# Altium integrated library Linear Technology PMIC-Switching Reg LTC1174-LTC3901.IntLib: 2647 symbols (part 115 of 310)
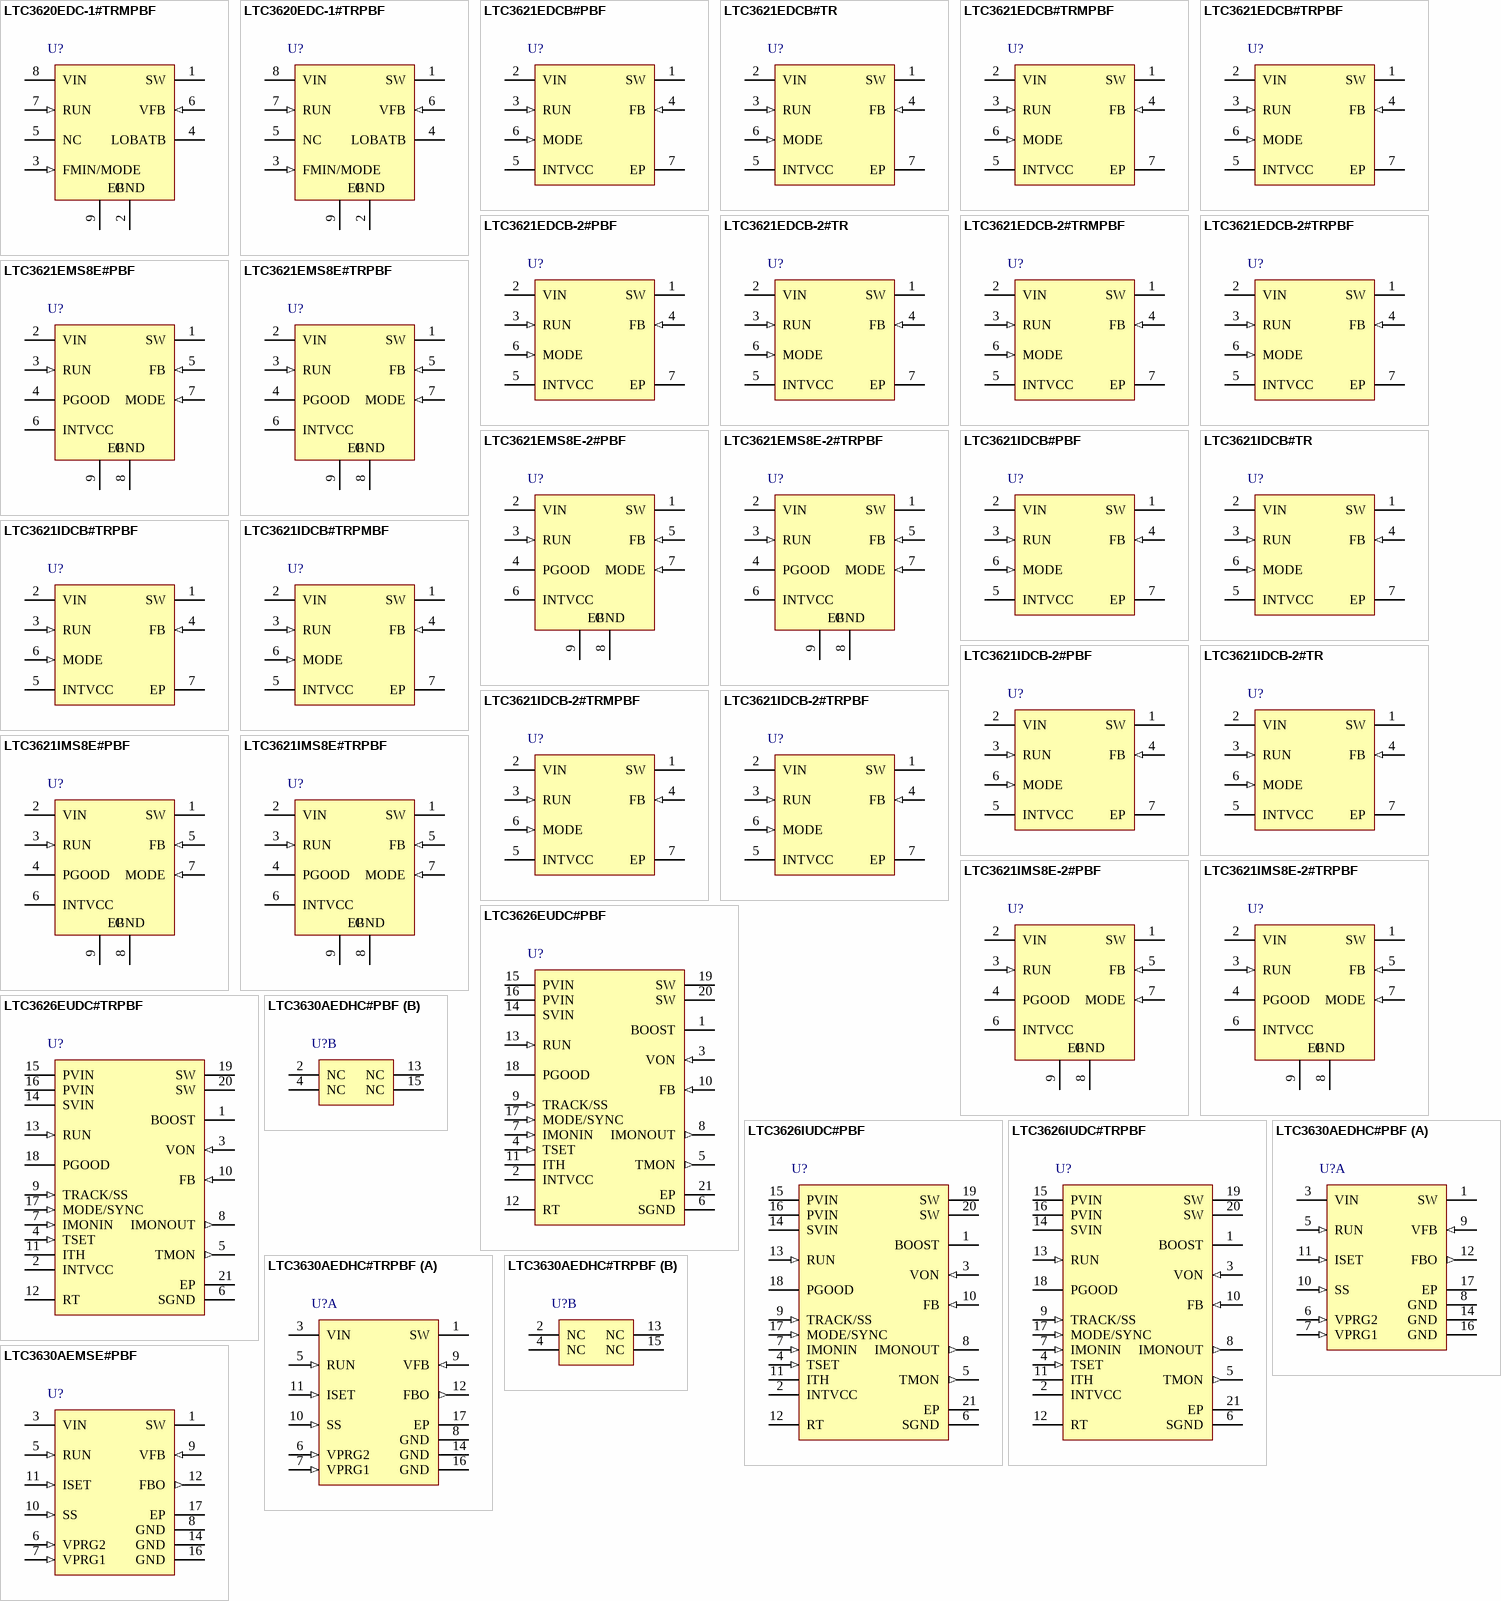
[diagram p182: symbols LTC3620EDC-1#TRMPBF to LTC3630AEMSE#PBF]

## LTC3621EMS8E-2#PBF
designator U?
1 A Synchronous Step-Down Regulator with 3.5 uA Quiescent Current, 8-pin SOP (MS8E-8), -40 to 125 degC, Pb-Free; Manufacturer: Linear Technology; PartNumber: LTC3621EMS8E-2#PBF; Number of Outputs: 1; PackageReference: MS8E-8; PackageDescription: 8-Pin Plastic MSOP, Exposed Die Pad, Body 3 x 3 mm, Pitch 0.65 mm; Supplier 1: Digi-Key; Supplier Part Number 1: LTC3621EMS8E-2#PBF-ND; RoHS: TRUE
footprint LT-MS8E-8-1880X1680TP_N (SOP, 8-Leads, Body 3.1x3.1mm, Pitch 0.65mm, Thermal Pad 1.88x1.68mm, IPC Medium Density)
footprint LT-MS8E-8-1880X1680TP_L (SOP, 8-Leads, Body 3.1x3.1mm, Pitch 0.65mm, Thermal Pad 1.88x1.68mm, IPC High Density)
footprint LT-MS8E-8-1880X1680TP_M (SOP, 8-Leads, Body 3.1x3.1mm, Pitch 0.65mm, Thermal Pad 1.88x1.68mm, IPC Low Density)
pins: 1 SW (power) "Switch Node Connection to the Inductor of the Step-Down Regulator.", 2 VIN (power) "Input Voltage of the Step-Down Regulator", 3 RUN (in) "Logic Controlled RUN Input. Do not leave this pin floating. Logic high activates the step-down regulator.", 4 PGOOD (oc) "VOUT within Regulation Indicator.", 5 FB (in) "Feedback Input to the Error Amplifier of the Step-Down Regulator. Connect a resistor divider tap to this pin.", 6 INTVCC (power) "Low Dropout Regulator. Bypass with at least 1uF to Ground.", 7 MODE (in) "Burst Mode Select of the Step-Down Regulator. Tie MODE to INTVCC for Burst Mode operation with a 400mA peak current clamp, tie MODE to GND for pulse skipping operation, and tie MODE to a voltage between 1V and VINTVCC - 1V (See Datasheet)", 8 SGND (power) "Signal Ground.", 9 EP (power) "Ground Backplane for Power and Signal Ground. Must be soldered to PCB ground."
text: GND

## LTC3621EMS8E-2#TRPBF
designator U?
1 A Synchronous Step-Down Regulator with 3.5 uA Quiescent Current, 8-pin SOP (MS8E-8), -40 to 125 degC, Pb-Free, Tape and Reel; Manufacturer: Linear Technology; PartNumber: LTC3621EMS8E-2#TRPBF; Number of Outputs: 1; PackageReference: MS8E-8; PackageDescription: 8-Pin Plastic MSOP, Exposed Die Pad, Body 3 x 3 mm, Pitch 0.65 mm; Supplier 1: Digi-Key; Supplier Part Number 1: LTC3621EMS8E-2#TRPBF-ND; RoHS: TRUE
footprint LT-MS8E-8-1880X1680TP_N (SOP, 8-Leads, Body 3.1x3.1mm, Pitch 0.65mm, Thermal Pad 1.88x1.68mm, IPC Medium Density)
footprint LT-MS8E-8-1880X1680TP_L (SOP, 8-Leads, Body 3.1x3.1mm, Pitch 0.65mm, Thermal Pad 1.88x1.68mm, IPC High Density)
footprint LT-MS8E-8-1880X1680TP_M (SOP, 8-Leads, Body 3.1x3.1mm, Pitch 0.65mm, Thermal Pad 1.88x1.68mm, IPC Low Density)
pins: 1 SW (power) "Switch Node Connection to the Inductor of the Step-Down Regulator.", 2 VIN (power) "Input Voltage of the Step-Down Regulator", 3 RUN (in) "Logic Controlled RUN Input. Do not leave this pin floating. Logic high activates the step-down regulator.", 4 PGOOD (oc) "VOUT within Regulation Indicator.", 5 FB (in) "Feedback Input to the Error Amplifier of the Step-Down Regulator. Connect a resistor divider tap to this pin.", 6 INTVCC (power) "Low Dropout Regulator. Bypass with at least 1uF to Ground.", 7 MODE (in) "Burst Mode Select of the Step-Down Regulator. Tie MODE to INTVCC for Burst Mode operation with a 400mA peak current clamp, tie MODE to GND for pulse skipping operation, and tie MODE to a voltage between 1V and VINTVCC - 1V (See Datasheet)", 8 SGND (power) "Signal Ground.", 9 EP (power) "Ground Backplane for Power and Signal Ground. Must be soldered to PCB ground."
text: GND

## LTC3621IDCB#PBF
designator U?
1 A Synchronous Step-Down Regulator with 3.5 uA Quiescent Current, 6-pin SON (DCB-6), -40 to 125 degC, Pb-Free; Manufacturer: Linear Technology; PartNumber: LTC3621IDCB#PBF; Number of Outputs: 1; PackageReference: DCB-6; PackageDescription: 6-Pin Plastic DFN, Body 2 x 3 mm, Pitch 0.5 mm; RoHS: TRUE; Code_JEDEC: MO-229
footprint LT-DCB-6_V (SON, 6-Leads, Body 3x2mm, Pitch 0.5mm, Thermal Pad 1.65x1.35mm)
pins: 1 SW (power) "Switch Node Connection to the Inductor of the Step-Down Regulator.", 2 VIN (power) "Input Voltage of the Step-Down Regulator.", 3 RUN (in) "Logic Controlled RUN Input. Do not leave this pin floating. Logic high activates the step-down regulator.", 4 FB (in) "Feedback Input to the Error Amplifier of the Step-Down Regulator. Connect a resistor divider tap to this pin. The output voltage can be adjusted from 0.6V to VIN by: VOUT = 0.6V x [1 + (R1/R2)]", 5 INTVCC (power) "Low Dropout Regulator. Bypass with at least 1uF to Ground.", 6 MODE (in) "Burst Mode Select of the Step-Down Regulator. Tie MODE to INTVCC for Burst Mode operation with a 400mA peak current clamp, tie MODE to GND for pulse skipping operation, and tie MODE to a voltage between 1V and VINTVCC -1V (See Datasheet)", 7 EP (power) "Ground Backplane for Power and Signal Ground. Must be soldered to PCB ground."

## LTC3621IDCB#TR
designator U?
1 A Synchronous Step-Down Regulator with 3.5 uA Quiescent Current, 6-pin SON (DCB-6), -40 to 125 degC, Tape and Reel; Manufacturer: Linear Technology; PartNumber: LTC3621IDCB#TR; Number of Outputs: 1; PackageReference: DCB-6; PackageDescription: 6-Pin Plastic DFN, Body 2 x 3 mm, Pitch 0.5 mm; RoHS: FALSE; Code_JEDEC: MO-229
footprint LT-DCB-6_V (SON, 6-Leads, Body 3x2mm, Pitch 0.5mm, Thermal Pad 1.65x1.35mm)
pins: 1 SW (power) "Switch Node Connection to the Inductor of the Step-Down Regulator.", 2 VIN (power) "Input Voltage of the Step-Down Regulator.", 3 RUN (in) "Logic Controlled RUN Input. Do not leave this pin floating. Logic high activates the step-down regulator.", 4 FB (in) "Feedback Input to the Error Amplifier of the Step-Down Regulator. Connect a resistor divider tap to this pin. The output voltage can be adjusted from 0.6V to VIN by: VOUT = 0.6V x [1 + (R1/R2)]", 5 INTVCC (power) "Low Dropout Regulator. Bypass with at least 1uF to Ground.", 6 MODE (in) "Burst Mode Select of the Step-Down Regulator. Tie MODE to INTVCC for Burst Mode operation with a 400mA peak current clamp, tie MODE to GND for pulse skipping operation, and tie MODE to a voltage between 1V and VINTVCC -1V (See Datasheet)", 7 EP (power) "Ground Backplane for Power and Signal Ground. Must be soldered to PCB ground."

## LTC3621IDCB#TRPBF
designator U?
1 A Synchronous Step-Down Regulator with 3.5 uA Quiescent Current, 6-pin SON (DCB-6), -40 to 125 degC, Pb-Free, Tape and Reel; Manufacturer: Linear Technology; PartNumber: LTC3621IDCB#TRPBF; Number of Outputs: 1; PackageReference: DCB-6; PackageDescription: 6-Pin Plastic DFN, Body 2 x 3 mm, Pitch 0.5 mm; Supplier 1: Digi-Key; Supplier Part Number 1: LTC3621IDCB#TRPBF-ND; RoHS: TRUE; Code_JEDEC: MO-229
footprint LT-DCB-6_V (SON, 6-Leads, Body 3x2mm, Pitch 0.5mm, Thermal Pad 1.65x1.35mm)
pins: 1 SW (power) "Switch Node Connection to the Inductor of the Step-Down Regulator.", 2 VIN (power) "Input Voltage of the Step-Down Regulator.", 3 RUN (in) "Logic Controlled RUN Input. Do not leave this pin floating. Logic high activates the step-down regulator.", 4 FB (in) "Feedback Input to the Error Amplifier of the Step-Down Regulator. Connect a resistor divider tap to this pin. The output voltage can be adjusted from 0.6V to VIN by: VOUT = 0.6V x [1 + (R1/R2)]", 5 INTVCC (power) "Low Dropout Regulator. Bypass with at least 1uF to Ground.", 6 MODE (in) "Burst Mode Select of the Step-Down Regulator. Tie MODE to INTVCC for Burst Mode operation with a 400mA peak current clamp, tie MODE to GND for pulse skipping operation, and tie MODE to a voltage between 1V and VINTVCC -1V (See Datasheet)", 7 EP (power) "Ground Backplane for Power and Signal Ground. Must be soldered to PCB ground."

## LTC3621IDCB#TRPMBF
designator U?
1 A Synchronous Step-Down Regulator with 3.5 uA Quiescent Current, 6-pin SON (DCB-6), -40 to 125 degC, Pb-Free, Mini Tape and Reel; Manufacturer: Linear Technology; PartNumber: LTC3621IDCB#TRPMBF; Number of Outputs: 1; PackageReference: DCB-6; PackageDescription: 6-Pin Plastic DFN, Body 2 x 3 mm, Pitch 0.5 mm; RoHS: TRUE; Code_JEDEC: MO-229
footprint LT-DCB-6_V (SON, 6-Leads, Body 3x2mm, Pitch 0.5mm, Thermal Pad 1.65x1.35mm)
pins: 1 SW (power) "Switch Node Connection to the Inductor of the Step-Down Regulator.", 2 VIN (power) "Input Voltage of the Step-Down Regulator.", 3 RUN (in) "Logic Controlled RUN Input. Do not leave this pin floating. Logic high activates the step-down regulator.", 4 FB (in) "Feedback Input to the Error Amplifier of the Step-Down Regulator. Connect a resistor divider tap to this pin. The output voltage can be adjusted from 0.6V to VIN by: VOUT = 0.6V x [1 + (R1/R2)]", 5 INTVCC (power) "Low Dropout Regulator. Bypass with at least 1uF to Ground.", 6 MODE (in) "Burst Mode Select of the Step-Down Regulator. Tie MODE to INTVCC for Burst Mode operation with a 400mA peak current clamp, tie MODE to GND for pulse skipping operation, and tie MODE to a voltage between 1V and VINTVCC -1V (See Datasheet)", 7 EP (power) "Ground Backplane for Power and Signal Ground. Must be soldered to PCB ground."

## LTC3621IDCB-2#PBF
designator U?
1 A Synchronous Step-Down Regulator with 3.5 uA Quiescent Current, 6-pin SON (DCB-6), -40 to 125 degC, Pb-Free; Manufacturer: Linear Technology; PartNumber: LTC3621IDCB-2#PBF; Number of Outputs: 1; PackageReference: DCB-6; PackageDescription: 6-Pin Plastic DFN, Body 2 x 3 mm, Pitch 0.5 mm; RoHS: TRUE; Code_JEDEC: MO-229
footprint LT-DCB-6_V (SON, 6-Leads, Body 3x2mm, Pitch 0.5mm, Thermal Pad 1.65x1.35mm)
pins: 1 SW (power) "Switch Node Connection to the Inductor of the Step-Down Regulator.", 2 VIN (power) "Input Voltage of the Step-Down Regulator.", 3 RUN (in) "Logic Controlled RUN Input. Do not leave this pin floating. Logic high activates the step-down regulator.", 4 FB (in) "Feedback Input to the Error Amplifier of the Step-Down Regulator. Connect a resistor divider tap to this pin. The output voltage can be adjusted from 0.6V to VIN by: VOUT = 0.6V x [1 + (R1/R2)]", 5 INTVCC (power) "Low Dropout Regulator. Bypass with at least 1uF to Ground.", 6 MODE (in) "Burst Mode Select of the Step-Down Regulator. Tie MODE to INTVCC for Burst Mode operation with a 400mA peak current clamp, tie MODE to GND for pulse skipping operation, and tie MODE to a voltage between 1V and VINTVCC -1V (See Datasheet)", 7 EP (power) "Ground Backplane for Power and Signal Ground. Must be soldered to PCB ground."

## LTC3621IDCB-2#TR
designator U?
1 A Synchronous Step-Down Regulator with 3.5 uA Quiescent Current, 6-pin SON (DCB-6), -40 to 125 degC, Tape and Reel; Manufacturer: Linear Technology; PartNumber: LTC3621IDCB-2#TR; Number of Outputs: 1; PackageReference: DCB-6; PackageDescription: 6-Pin Plastic DFN, Body 2 x 3 mm, Pitch 0.5 mm; RoHS: FALSE; Code_JEDEC: MO-229
footprint LT-DCB-6_V (SON, 6-Leads, Body 3x2mm, Pitch 0.5mm, Thermal Pad 1.65x1.35mm)
pins: 1 SW (power) "Switch Node Connection to the Inductor of the Step-Down Regulator.", 2 VIN (power) "Input Voltage of the Step-Down Regulator.", 3 RUN (in) "Logic Controlled RUN Input. Do not leave this pin floating. Logic high activates the step-down regulator.", 4 FB (in) "Feedback Input to the Error Amplifier of the Step-Down Regulator. Connect a resistor divider tap to this pin. The output voltage can be adjusted from 0.6V to VIN by: VOUT = 0.6V x [1 + (R1/R2)]", 5 INTVCC (power) "Low Dropout Regulator. Bypass with at least 1uF to Ground.", 6 MODE (in) "Burst Mode Select of the Step-Down Regulator. Tie MODE to INTVCC for Burst Mode operation with a 400mA peak current clamp, tie MODE to GND for pulse skipping operation, and tie MODE to a voltage between 1V and VINTVCC -1V (See Datasheet)", 7 EP (power) "Ground Backplane for Power and Signal Ground. Must be soldered to PCB ground."

## LTC3621IDCB-2#TRMPBF
designator U?
1 A Synchronous Step-Down Regulator with 3.5 uA Quiescent Current, 6-pin SON (DCB-6), -40 to 125 degC, Pb-Free, Mini Tape and Reel; Manufacturer: Linear Technology; PartNumber: LTC3621IDCB-2#TRMPBF; Number of Outputs: 1; PackageReference: DCB-6; PackageDescription: 6-Pin Plastic DFN, Body 2 x 3 mm, Pitch 0.5 mm; Supplier 1: Digi-Key; Supplier Part Number 1: LTC3621IDCB-2#TRMPBF-ND; RoHS: TRUE; Code_JEDEC: MO-229
footprint LT-DCB-6_V (SON, 6-Leads, Body 3x2mm, Pitch 0.5mm, Thermal Pad 1.65x1.35mm)
pins: 1 SW (power) "Switch Node Connection to the Inductor of the Step-Down Regulator.", 2 VIN (power) "Input Voltage of the Step-Down Regulator.", 3 RUN (in) "Logic Controlled RUN Input. Do not leave this pin floating. Logic high activates the step-down regulator.", 4 FB (in) "Feedback Input to the Error Amplifier of the Step-Down Regulator. Connect a resistor divider tap to this pin. The output voltage can be adjusted from 0.6V to VIN by: VOUT = 0.6V x [1 + (R1/R2)]", 5 INTVCC (power) "Low Dropout Regulator. Bypass with at least 1uF to Ground.", 6 MODE (in) "Burst Mode Select of the Step-Down Regulator. Tie MODE to INTVCC for Burst Mode operation with a 400mA peak current clamp, tie MODE to GND for pulse skipping operation, and tie MODE to a voltage between 1V and VINTVCC -1V (See Datasheet)", 7 EP (power) "Ground Backplane for Power and Signal Ground. Must be soldered to PCB ground."

## LTC3621IDCB-2#TRPBF
designator U?
1 A Synchronous Step-Down Regulator with 3.5 uA Quiescent Current, 6-pin SON (DCB-6), -40 to 125 degC, Pb-Free, Tape and Reel; Manufacturer: Linear Technology; PartNumber: LTC3621IDCB-2#TRPBF; Number of Outputs: 1; PackageReference: DCB-6; PackageDescription: 6-Pin Plastic DFN, Body 2 x 3 mm, Pitch 0.5 mm; Supplier 1: Digi-Key; Supplier Part Number 1: LTC3621IDCB-2#TRPBF-ND; RoHS: TRUE; Code_JEDEC: MO-229
footprint LT-DCB-6_V (SON, 6-Leads, Body 3x2mm, Pitch 0.5mm, Thermal Pad 1.65x1.35mm)
pins: 1 SW (power) "Switch Node Connection to the Inductor of the Step-Down Regulator.", 2 VIN (power) "Input Voltage of the Step-Down Regulator.", 3 RUN (in) "Logic Controlled RUN Input. Do not leave this pin floating. Logic high activates the step-down regulator.", 4 FB (in) "Feedback Input to the Error Amplifier of the Step-Down Regulator. Connect a resistor divider tap to this pin. The output voltage can be adjusted from 0.6V to VIN by: VOUT = 0.6V x [1 + (R1/R2)]", 5 INTVCC (power) "Low Dropout Regulator. Bypass with at least 1uF to Ground.", 6 MODE (in) "Burst Mode Select of the Step-Down Regulator. Tie MODE to INTVCC for Burst Mode operation with a 400mA peak current clamp, tie MODE to GND for pulse skipping operation, and tie MODE to a voltage between 1V and VINTVCC -1V (See Datasheet)", 7 EP (power) "Ground Backplane for Power and Signal Ground. Must be soldered to PCB ground."

## LTC3621IMS8E#PBF
designator U?
1 A Synchronous Step-Down Regulator with 3.5 uA Quiescent Current, 8-pin SOP (MS8E-8), -40 to 125 degC, Pb-Free; Manufacturer: Linear Technology; PartNumber: LTC3621IMS8E#PBF; Number of Outputs: 1; PackageReference: MS8E-8; PackageDescription: 8-Pin Plastic MSOP, Exposed Die Pad, Body 3 x 3 mm, Pitch 0.65 mm; Supplier 1: Digi-Key; Supplier Part Number 1: LTC3621IMS8E#PBF-ND; RoHS: TRUE
footprint LT-MS8E-8-1880X1680TP_N (SOP, 8-Leads, Body 3.1x3.1mm, Pitch 0.65mm, Thermal Pad 1.88x1.68mm, IPC Medium Density)
footprint LT-MS8E-8-1880X1680TP_L (SOP, 8-Leads, Body 3.1x3.1mm, Pitch 0.65mm, Thermal Pad 1.88x1.68mm, IPC High Density)
footprint LT-MS8E-8-1880X1680TP_M (SOP, 8-Leads, Body 3.1x3.1mm, Pitch 0.65mm, Thermal Pad 1.88x1.68mm, IPC Low Density)
pins: 1 SW (power) "Switch Node Connection to the Inductor of the Step-Down Regulator.", 2 VIN (power) "Input Voltage of the Step-Down Regulator", 3 RUN (in) "Logic Controlled RUN Input. Do not leave this pin floating. Logic high activates the step-down regulator.", 4 PGOOD (oc) "VOUT within Regulation Indicator.", 5 FB (in) "Feedback Input to the Error Amplifier of the Step-Down Regulator. Connect a resistor divider tap to this pin.", 6 INTVCC (power) "Low Dropout Regulator. Bypass with at least 1uF to Ground.", 7 MODE (in) "Burst Mode Select of the Step-Down Regulator. Tie MODE to INTVCC for Burst Mode operation with a 400mA peak current clamp, tie MODE to GND for pulse skipping operation, and tie MODE to a voltage between 1V and VINTVCC - 1V (See Datasheet)", 8 SGND (power) "Signal Ground.", 9 EP (power) "Ground Backplane for Power and Signal Ground. Must be soldered to PCB ground."
text: GND

## LTC3621IMS8E#TRPBF
designator U?
1 A Synchronous Step-Down Regulator with 3.5 uA Quiescent Current, 8-pin SOP (MS8E-8), -40 to 125 degC, Pb-Free, Tape and Reel; Manufacturer: Linear Technology; PartNumber: LTC3621IMS8E#TRPBF; Number of Outputs: 1; PackageReference: MS8E-8; PackageDescription: 8-Pin Plastic MSOP, Exposed Die Pad, Body 3 x 3 mm, Pitch 0.65 mm; Supplier 1: Digi-Key; Supplier Part Number 1: LTC3621IMS8E#TRPBF-ND; RoHS: TRUE
footprint LT-MS8E-8-1880X1680TP_N (SOP, 8-Leads, Body 3.1x3.1mm, Pitch 0.65mm, Thermal Pad 1.88x1.68mm, IPC Medium Density)
footprint LT-MS8E-8-1880X1680TP_L (SOP, 8-Leads, Body 3.1x3.1mm, Pitch 0.65mm, Thermal Pad 1.88x1.68mm, IPC High Density)
footprint LT-MS8E-8-1880X1680TP_M (SOP, 8-Leads, Body 3.1x3.1mm, Pitch 0.65mm, Thermal Pad 1.88x1.68mm, IPC Low Density)
pins: 1 SW (power) "Switch Node Connection to the Inductor of the Step-Down Regulator.", 2 VIN (power) "Input Voltage of the Step-Down Regulator", 3 RUN (in) "Logic Controlled RUN Input. Do not leave this pin floating. Logic high activates the step-down regulator.", 4 PGOOD (oc) "VOUT within Regulation Indicator.", 5 FB (in) "Feedback Input to the Error Amplifier of the Step-Down Regulator. Connect a resistor divider tap to this pin.", 6 INTVCC (power) "Low Dropout Regulator. Bypass with at least 1uF to Ground.", 7 MODE (in) "Burst Mode Select of the Step-Down Regulator. Tie MODE to INTVCC for Burst Mode operation with a 400mA peak current clamp, tie MODE to GND for pulse skipping operation, and tie MODE to a voltage between 1V and VINTVCC - 1V (See Datasheet)", 8 SGND (power) "Signal Ground.", 9 EP (power) "Ground Backplane for Power and Signal Ground. Must be soldered to PCB ground."
text: GND

## LTC3621IMS8E-2#PBF
designator U?
1 A Synchronous Step-Down Regulator with 3.5 uA Quiescent Current, 8-pin SOP (MS8E-8), -40 to 125 degC, Pb-Free; Manufacturer: Linear Technology; PartNumber: LTC3621IMS8E-2#PBF; Number of Outputs: 1; PackageReference: MS8E-8; PackageDescription: 8-Pin Plastic MSOP, Exposed Die Pad, Body 3 x 3 mm, Pitch 0.65 mm; Supplier 1: Digi-Key; Supplier Part Number 1: LTC3621IMS8E-2#PBF-ND; RoHS: TRUE
footprint LT-MS8E-8-1880X1680TP_N (SOP, 8-Leads, Body 3.1x3.1mm, Pitch 0.65mm, Thermal Pad 1.88x1.68mm, IPC Medium Density)
footprint LT-MS8E-8-1880X1680TP_L (SOP, 8-Leads, Body 3.1x3.1mm, Pitch 0.65mm, Thermal Pad 1.88x1.68mm, IPC High Density)
footprint LT-MS8E-8-1880X1680TP_M (SOP, 8-Leads, Body 3.1x3.1mm, Pitch 0.65mm, Thermal Pad 1.88x1.68mm, IPC Low Density)
pins: 1 SW (power) "Switch Node Connection to the Inductor of the Step-Down Regulator.", 2 VIN (power) "Input Voltage of the Step-Down Regulator", 3 RUN (in) "Logic Controlled RUN Input. Do not leave this pin floating. Logic high activates the step-down regulator.", 4 PGOOD (oc) "VOUT within Regulation Indicator.", 5 FB (in) "Feedback Input to the Error Amplifier of the Step-Down Regulator. Connect a resistor divider tap to this pin.", 6 INTVCC (power) "Low Dropout Regulator. Bypass with at least 1uF to Ground.", 7 MODE (in) "Burst Mode Select of the Step-Down Regulator. Tie MODE to INTVCC for Burst Mode operation with a 400mA peak current clamp, tie MODE to GND for pulse skipping operation, and tie MODE to a voltage between 1V and VINTVCC - 1V (See Datasheet)", 8 SGND (power) "Signal Ground.", 9 EP (power) "Ground Backplane for Power and Signal Ground. Must be soldered to PCB ground."
text: GND

## LTC3621IMS8E-2#TRPBF
designator U?
1 A Synchronous Step-Down Regulator with 3.5 uA Quiescent Current, 8-pin SOP (MS8E-8), -40 to 125 degC, Pb-Free, Tape and Reel; Manufacturer: Linear Technology; PartNumber: LTC3621IMS8E-2#TRPBF; Number of Outputs: 1; PackageReference: MS8E-8; PackageDescription: 8-Pin Plastic MSOP, Exposed Die Pad, Body 3 x 3 mm, Pitch 0.65 mm; Supplier 1: Digi-Key; Supplier Part Number 1: LTC3621IMS8E-2#TRPBF-ND; RoHS: TRUE
footprint LT-MS8E-8-1880X1680TP_N (SOP, 8-Leads, Body 3.1x3.1mm, Pitch 0.65mm, Thermal Pad 1.88x1.68mm, IPC Medium Density)
footprint LT-MS8E-8-1880X1680TP_L (SOP, 8-Leads, Body 3.1x3.1mm, Pitch 0.65mm, Thermal Pad 1.88x1.68mm, IPC High Density)
footprint LT-MS8E-8-1880X1680TP_M (SOP, 8-Leads, Body 3.1x3.1mm, Pitch 0.65mm, Thermal Pad 1.88x1.68mm, IPC Low Density)
pins: 1 SW (power) "Switch Node Connection to the Inductor of the Step-Down Regulator.", 2 VIN (power) "Input Voltage of the Step-Down Regulator", 3 RUN (in) "Logic Controlled RUN Input. Do not leave this pin floating. Logic high activates the step-down regulator.", 4 PGOOD (oc) "VOUT within Regulation Indicator.", 5 FB (in) "Feedback Input to the Error Amplifier of the Step-Down Regulator. Connect a resistor divider tap to this pin.", 6 INTVCC (power) "Low Dropout Regulator. Bypass with at least 1uF to Ground.", 7 MODE (in) "Burst Mode Select of the Step-Down Regulator. Tie MODE to INTVCC for Burst Mode operation with a 400mA peak current clamp, tie MODE to GND for pulse skipping operation, and tie MODE to a voltage between 1V and VINTVCC - 1V (See Datasheet)", 8 SGND (power) "Signal Ground.", 9 EP (power) "Ground Backplane for Power and Signal Ground. Must be soldered to PCB ground."
text: GND

## LTC3626EUDC#PBF
designator U?
20 V, 2.5 A Synchronous Monolithic Step-Down Regulator with Current and Temperature Monitoring, 20-pin QFN (UDC-20), -40 to 125 degC, Pb-Free; Manufacturer: Linear Technology; PartNumber: LTC3626EUDC#PBF; Number of Outputs: 1; PackageReference: UDC20; PackageDescription: 20-Pin Plastic QFN, Body 3 x 4 mm, Pitch 0.5 mm; Supplier 1: Digi-Key; Supplier Part Number 1: LTC3626EUDC#PBF-ND; RoHS: TRUE
footprint LT-UDC-20_N (QFN, 20-Leads, Body 4.1x3.1mm, Pitch 0.5mm, Thermal Pad 2.65x1.65mm, IPC Medium Density)
footprint LT-UDC-20_L (QFN, 20-Leads, Body 4.1x3.1mm, Pitch 0.5mm, Thermal Pad 2.65x1.65mm, IPC High Density)
footprint LT-UDC-20_M (QFN, 20-Leads, Body 4.1x3.1mm, Pitch 0.5mm, Thermal Pad 2.65x1.65mm, IPC Low Density)
pins: 1 BOOST "Boosted Floating Driver Supply Pin. The (+) terminal of the external bootstrap capacitor connects to this pin while the (-) terminal connects to the SW pin. The normal operation voltage swing of this pin ranges from INTVCC (See Datasheet)", 2 INTVCC (power) "Internal 3.3V Regulator Output Pin. This pin should be decoupled to PGND with a low ESR ceramic capacitor of value 1uF or greater. The 3.3V regulator is disabled when the RUN pin is low.", 3 VON (in) "On-Time Voltage Input. This pin sets the voltage trip point for the on-time comparator. Tying this pin to the output voltage makes the on-time proportional to VOUT when VOUT < 6V. When VOUT > 6V, the switching frequency may (See Datasheet)", 4 TSET (in) "Temperature Limit Set Pin. The voltage at this pin determines the threshold for internal temperature shutdown. When the voltage at TMON reaches the voltage at TSET, the LTC3626 will trigger an overtemperature fault. An (See Datasheet)", 5 TMON (out) "Temperature Monitor Output. A voltage proportional to the measured on-die temperature will appear at this pin. The voltage-to-temperature scaling factor is 200degreesK/V. See the Applications Information section for detailed (See Datasheet)", 6 SGND (power) "Signal Ground Pin. This pin should have a low noise connection to reference ground. The feedback resistor network, external compensation network, current monitor components, and RT resistor should be connected to this ground.", 7 IMONIN (in) "Average Input Current Monitor. A current proportional to the average input current flows out of this pin. Pull this pin to INTVCC to defeat the input current monitor function. An error amplifier compares the voltage on this (See Datasheet)", 8 IMONOUT (out) "Average Output Current Monitor Pin. A current proportional to the average output current flows out of this pin. Pull this pin to INTVCC to defeat the output current monitor function. An error amplifier compares the voltage (See Datasheet)", 9 TRACK/SS (in) "Output Voltage Tracking and Soft-Start Input. Forcing a voltage below 0.6V on this pin overrides the internal reference input to the error amplifier. The LTC3626 will servo the FB pin to the TRACK/SS voltage under this (See Datasheet)", 10 FB (in) "Output Voltage Feedback. This pin is the input to the error amplifier that compares the feedback voltage to the internal 0.6V reference voltage. Connect this pin to the appropriate resistor divider network to program the (See Datasheet)", 11 ITH "Error Amplifier Output and Switching Regulator Compensation Point. Connect this pin to appropriate external components to compensate the regulator loop frequency response. Connect this pin to INTVCC to use the default (See Datasheet)", 12 RT "Oscillator Frequency Program Pin. Connect an external resistor, between 640k to 105k, from this pin to SGND to program the LTC3626 switching frequency from 500kHz to 3MHz. When RT is tied to INTVCC, the switching frequency (See Datasheet)", 13 RUN (in) "Regulator Enable Pin. Enables chip operation by applying a voltage above 1.25V. A voltage below 1.0V on this pin places the part into shutdown. Do not float this pin.", 14 SVIN (power) "Signal Power Supply Input. This pin supplies current to the internal 3.3V regulator.", 15 PVIN (power) "Main Power Supply Input. These pins should be closely decoupled to PGND with a low ESR capacitor of value 10uF or more.", 16 PVIN (power) "Main Power Supply Input. These pins should be closely decoupled to PGND with a low ESR capacitor of value 10uF or more.", 17 MODE/SYNC (in) "Mode Selection and External Synchronization Input. This pin places the LTC3626 into forced continuous operation when tied to ground. High efficiency Burst Mode operation is enabled by either floating this pin or tying this (See Datasheet)", 18 PGOOD (hiz) "Open-Drain Power Good Output Pin. PGOOD is pulled to ground when the voltage at the FB pin is not within +/-8% (typical) of the internal 0.6V reference. PGOOD becomes high impedance once the voltage at the FB pin returns to (See Datasheet)", 19 SW (power) "Switch Node Connection to Inductor. Connect this pin to the SW side of the external inductor. The normal operation voltage swing of this pin ranges from ground to PVIN.", 20 SW (power) "Switch Node Connection to Inductor. Connect this pin to the SW side of the external inductor. The normal operation voltage swing of this pin ranges from ground to PVIN.", 21 EP (power) "Power Ground Pin. The (-) terminal of the input bypass capacitor, CIN, and the (-) of the output capacitor, COUT, should be tied to this pin with a low impedance connection. This pin must be soldered to the PCB to provide (See Datasheet)"

## LTC3626EUDC#TRPBF
designator U?
20 V, 2.5 A Synchronous Monolithic Step-Down Regulator with Current and Temperature Monitoring, 20-pin QFN (UDC-20), -40 to 125 degC, Pb-Free, Tape and Reel; Manufacturer: Linear Technology; PartNumber: LTC3626EUDC#TRPBF; Number of Outputs: 1; PackageReference: UDC20; PackageDescription: 20-Pin Plastic QFN, Body 3 x 4 mm, Pitch 0.5 mm; Supplier 1: Digi-Key; Supplier Part Number 1: LTC3626EUDC#TRPBF-ND; RoHS: TRUE
footprint LT-UDC-20_N (QFN, 20-Leads, Body 4.1x3.1mm, Pitch 0.5mm, Thermal Pad 2.65x1.65mm, IPC Medium Density)
footprint LT-UDC-20_L (QFN, 20-Leads, Body 4.1x3.1mm, Pitch 0.5mm, Thermal Pad 2.65x1.65mm, IPC High Density)
footprint LT-UDC-20_M (QFN, 20-Leads, Body 4.1x3.1mm, Pitch 0.5mm, Thermal Pad 2.65x1.65mm, IPC Low Density)
pins: 1 BOOST "Boosted Floating Driver Supply Pin. The (+) terminal of the external bootstrap capacitor connects to this pin while the (-) terminal connects to the SW pin. The normal operation voltage swing of this pin ranges from INTVCC (See Datasheet)", 2 INTVCC (power) "Internal 3.3V Regulator Output Pin. This pin should be decoupled to PGND with a low ESR ceramic capacitor of value 1uF or greater. The 3.3V regulator is disabled when the RUN pin is low.", 3 VON (in) "On-Time Voltage Input. This pin sets the voltage trip point for the on-time comparator. Tying this pin to the output voltage makes the on-time proportional to VOUT when VOUT < 6V. When VOUT > 6V, the switching frequency may (See Datasheet)", 4 TSET (in) "Temperature Limit Set Pin. The voltage at this pin determines the threshold for internal temperature shutdown. When the voltage at TMON reaches the voltage at TSET, the LTC3626 will trigger an overtemperature fault. An (See Datasheet)", 5 TMON (out) "Temperature Monitor Output. A voltage proportional to the measured on-die temperature will appear at this pin. The voltage-to-temperature scaling factor is 200degreesK/V. See the Applications Information section for detailed (See Datasheet)", 6 SGND (power) "Signal Ground Pin. This pin should have a low noise connection to reference ground. The feedback resistor network, external compensation network, current monitor components, and RT resistor should be connected to this ground.", 7 IMONIN (in) "Average Input Current Monitor. A current proportional to the average input current flows out of this pin. Pull this pin to INTVCC to defeat the input current monitor function. An error amplifier compares the voltage on this (See Datasheet)", 8 IMONOUT (out) "Average Output Current Monitor Pin. A current proportional to the average output current flows out of this pin. Pull this pin to INTVCC to defeat the output current monitor function. An error amplifier compares the voltage (See Datasheet)", 9 TRACK/SS (in) "Output Voltage Tracking and Soft-Start Input. Forcing a voltage below 0.6V on this pin overrides the internal reference input to the error amplifier. The LTC3626 will servo the FB pin to the TRACK/SS voltage under this (See Datasheet)", 10 FB (in) "Output Voltage Feedback. This pin is the input to the error amplifier that compares the feedback voltage to the internal 0.6V reference voltage. Connect this pin to the appropriate resistor divider network to program the (See Datasheet)", 11 ITH "Error Amplifier Output and Switching Regulator Compensation Point. Connect this pin to appropriate external components to compensate the regulator loop frequency response. Connect this pin to INTVCC to use the default (See Datasheet)", 12 RT "Oscillator Frequency Program Pin. Connect an external resistor, between 640k to 105k, from this pin to SGND to program the LTC3626 switching frequency from 500kHz to 3MHz. When RT is tied to INTVCC, the switching frequency (See Datasheet)", 13 RUN (in) "Regulator Enable Pin. Enables chip operation by applying a voltage above 1.25V. A voltage below 1.0V on this pin places the part into shutdown. Do not float this pin.", 14 SVIN (power) "Signal Power Supply Input. This pin supplies current to the internal 3.3V regulator.", 15 PVIN (power) "Main Power Supply Input. These pins should be closely decoupled to PGND with a low ESR capacitor of value 10uF or more.", 16 PVIN (power) "Main Power Supply Input. These pins should be closely decoupled to PGND with a low ESR capacitor of value 10uF or more.", 17 MODE/SYNC (in) "Mode Selection and External Synchronization Input. This pin places the LTC3626 into forced continuous operation when tied to ground. High efficiency Burst Mode operation is enabled by either floating this pin or tying this (See Datasheet)", 18 PGOOD (hiz) "Open-Drain Power Good Output Pin. PGOOD is pulled to ground when the voltage at the FB pin is not within +/-8% (typical) of the internal 0.6V reference. PGOOD becomes high impedance once the voltage at the FB pin returns to (See Datasheet)", 19 SW (power) "Switch Node Connection to Inductor. Connect this pin to the SW side of the external inductor. The normal operation voltage swing of this pin ranges from ground to PVIN.", 20 SW (power) "Switch Node Connection to Inductor. Connect this pin to the SW side of the external inductor. The normal operation voltage swing of this pin ranges from ground to PVIN.", 21 EP (power) "Power Ground Pin. The (-) terminal of the input bypass capacitor, CIN, and the (-) of the output capacitor, COUT, should be tied to this pin with a low impedance connection. This pin must be soldered to the PCB to provide (See Datasheet)"

## LTC3626IUDC#PBF
designator U?
20 V, 2.5 A Synchronous Monolithic Step-Down Regulator with Current and Temperature Monitoring, 20-pin QFN (UDC-20), -40 to 125 degC, Pb-Free; Manufacturer: Linear Technology; PartNumber: LTC3626IUDC#PBF; Number of Outputs: 1; PackageReference: UDC20; PackageDescription: 20-Pin Plastic QFN, Body 3 x 4 mm, Pitch 0.5 mm; Supplier 1: Digi-Key; Supplier Part Number 1: LTC3626IUDC#PBF-ND; RoHS: TRUE
footprint LT-UDC-20_N (QFN, 20-Leads, Body 4.1x3.1mm, Pitch 0.5mm, Thermal Pad 2.65x1.65mm, IPC Medium Density)
footprint LT-UDC-20_L (QFN, 20-Leads, Body 4.1x3.1mm, Pitch 0.5mm, Thermal Pad 2.65x1.65mm, IPC High Density)
footprint LT-UDC-20_M (QFN, 20-Leads, Body 4.1x3.1mm, Pitch 0.5mm, Thermal Pad 2.65x1.65mm, IPC Low Density)
pins: 1 BOOST "Boosted Floating Driver Supply Pin. The (+) terminal of the external bootstrap capacitor connects to this pin while the (-) terminal connects to the SW pin. The normal operation voltage swing of this pin ranges from INTVCC (See Datasheet)", 2 INTVCC (power) "Internal 3.3V Regulator Output Pin. This pin should be decoupled to PGND with a low ESR ceramic capacitor of value 1uF or greater. The 3.3V regulator is disabled when the RUN pin is low.", 3 VON (in) "On-Time Voltage Input. This pin sets the voltage trip point for the on-time comparator. Tying this pin to the output voltage makes the on-time proportional to VOUT when VOUT < 6V. When VOUT > 6V, the switching frequency may (See Datasheet)", 4 TSET (in) "Temperature Limit Set Pin. The voltage at this pin determines the threshold for internal temperature shutdown. When the voltage at TMON reaches the voltage at TSET, the LTC3626 will trigger an overtemperature fault. An (See Datasheet)", 5 TMON (out) "Temperature Monitor Output. A voltage proportional to the measured on-die temperature will appear at this pin. The voltage-to-temperature scaling factor is 200degreesK/V. See the Applications Information section for detailed (See Datasheet)", 6 SGND (power) "Signal Ground Pin. This pin should have a low noise connection to reference ground. The feedback resistor network, external compensation network, current monitor components, and RT resistor should be connected to this ground.", 7 IMONIN (in) "Average Input Current Monitor. A current proportional to the average input current flows out of this pin. Pull this pin to INTVCC to defeat the input current monitor function. An error amplifier compares the voltage on this (See Datasheet)", 8 IMONOUT (out) "Average Output Current Monitor Pin. A current proportional to the average output current flows out of this pin. Pull this pin to INTVCC to defeat the output current monitor function. An error amplifier compares the voltage (See Datasheet)", 9 TRACK/SS (in) "Output Voltage Tracking and Soft-Start Input. Forcing a voltage below 0.6V on this pin overrides the internal reference input to the error amplifier. The LTC3626 will servo the FB pin to the TRACK/SS voltage under this (See Datasheet)", 10 FB (in) "Output Voltage Feedback. This pin is the input to the error amplifier that compares the feedback voltage to the internal 0.6V reference voltage. Connect this pin to the appropriate resistor divider network to program the (See Datasheet)", 11 ITH "Error Amplifier Output and Switching Regulator Compensation Point. Connect this pin to appropriate external components to compensate the regulator loop frequency response. Connect this pin to INTVCC to use the default (See Datasheet)", 12 RT "Oscillator Frequency Program Pin. Connect an external resistor, between 640k to 105k, from this pin to SGND to program the LTC3626 switching frequency from 500kHz to 3MHz. When RT is tied to INTVCC, the switching frequency (See Datasheet)", 13 RUN (in) "Regulator Enable Pin. Enables chip operation by applying a voltage above 1.25V. A voltage below 1.0V on this pin places the part into shutdown. Do not float this pin.", 14 SVIN (power) "Signal Power Supply Input. This pin supplies current to the internal 3.3V regulator.", 15 PVIN (power) "Main Power Supply Input. These pins should be closely decoupled to PGND with a low ESR capacitor of value 10uF or more.", 16 PVIN (power) "Main Power Supply Input. These pins should be closely decoupled to PGND with a low ESR capacitor of value 10uF or more.", 17 MODE/SYNC (in) "Mode Selection and External Synchronization Input. This pin places the LTC3626 into forced continuous operation when tied to ground. High efficiency Burst Mode operation is enabled by either floating this pin or tying this (See Datasheet)", 18 PGOOD (hiz) "Open-Drain Power Good Output Pin. PGOOD is pulled to ground when the voltage at the FB pin is not within +/-8% (typical) of the internal 0.6V reference. PGOOD becomes high impedance once the voltage at the FB pin returns to (See Datasheet)", 19 SW (power) "Switch Node Connection to Inductor. Connect this pin to the SW side of the external inductor. The normal operation voltage swing of this pin ranges from ground to PVIN.", 20 SW (power) "Switch Node Connection to Inductor. Connect this pin to the SW side of the external inductor. The normal operation voltage swing of this pin ranges from ground to PVIN.", 21 EP (power) "Power Ground Pin. The (-) terminal of the input bypass capacitor, CIN, and the (-) of the output capacitor, COUT, should be tied to this pin with a low impedance connection. This pin must be soldered to the PCB to provide (See Datasheet)"

## LTC3626IUDC#TRPBF
designator U?
20 V, 2.5 A Synchronous Monolithic Step-Down Regulator with Current and Temperature Monitoring, 20-pin QFN (UDC-20), -40 to 125 degC, Pb-Free, Tape and Reel; Manufacturer: Linear Technology; PartNumber: LTC3626IUDC#TRPBF; Number of Outputs: 1; PackageReference: UDC20; PackageDescription: 20-Pin Plastic QFN, Body 3 x 4 mm, Pitch 0.5 mm; Supplier 1: Digi-Key; Supplier Part Number 1: LTC3626IUDC#TRPBF-ND; RoHS: TRUE
footprint LT-UDC-20_N (QFN, 20-Leads, Body 4.1x3.1mm, Pitch 0.5mm, Thermal Pad 2.65x1.65mm, IPC Medium Density)
footprint LT-UDC-20_L (QFN, 20-Leads, Body 4.1x3.1mm, Pitch 0.5mm, Thermal Pad 2.65x1.65mm, IPC High Density)
footprint LT-UDC-20_M (QFN, 20-Leads, Body 4.1x3.1mm, Pitch 0.5mm, Thermal Pad 2.65x1.65mm, IPC Low Density)
pins: 1 BOOST "Boosted Floating Driver Supply Pin. The (+) terminal of the external bootstrap capacitor connects to this pin while the (-) terminal connects to the SW pin. The normal operation voltage swing of this pin ranges from INTVCC (See Datasheet)", 2 INTVCC (power) "Internal 3.3V Regulator Output Pin. This pin should be decoupled to PGND with a low ESR ceramic capacitor of value 1uF or greater. The 3.3V regulator is disabled when the RUN pin is low.", 3 VON (in) "On-Time Voltage Input. This pin sets the voltage trip point for the on-time comparator. Tying this pin to the output voltage makes the on-time proportional to VOUT when VOUT < 6V. When VOUT > 6V, the switching frequency may (See Datasheet)", 4 TSET (in) "Temperature Limit Set Pin. The voltage at this pin determines the threshold for internal temperature shutdown. When the voltage at TMON reaches the voltage at TSET, the LTC3626 will trigger an overtemperature fault. An (See Datasheet)", 5 TMON (out) "Temperature Monitor Output. A voltage proportional to the measured on-die temperature will appear at this pin. The voltage-to-temperature scaling factor is 200degreesK/V. See the Applications Information section for detailed (See Datasheet)", 6 SGND (power) "Signal Ground Pin. This pin should have a low noise connection to reference ground. The feedback resistor network, external compensation network, current monitor components, and RT resistor should be connected to this ground.", 7 IMONIN (in) "Average Input Current Monitor. A current proportional to the average input current flows out of this pin. Pull this pin to INTVCC to defeat the input current monitor function. An error amplifier compares the voltage on this (See Datasheet)", 8 IMONOUT (out) "Average Output Current Monitor Pin. A current proportional to the average output current flows out of this pin. Pull this pin to INTVCC to defeat the output current monitor function. An error amplifier compares the voltage (See Datasheet)", 9 TRACK/SS (in) "Output Voltage Tracking and Soft-Start Input. Forcing a voltage below 0.6V on this pin overrides the internal reference input to the error amplifier. The LTC3626 will servo the FB pin to the TRACK/SS voltage under this (See Datasheet)", 10 FB (in) "Output Voltage Feedback. This pin is the input to the error amplifier that compares the feedback voltage to the internal 0.6V reference voltage. Connect this pin to the appropriate resistor divider network to program the (See Datasheet)", 11 ITH "Error Amplifier Output and Switching Regulator Compensation Point. Connect this pin to appropriate external components to compensate the regulator loop frequency response. Connect this pin to INTVCC to use the default (See Datasheet)", 12 RT "Oscillator Frequency Program Pin. Connect an external resistor, between 640k to 105k, from this pin to SGND to program the LTC3626 switching frequency from 500kHz to 3MHz. When RT is tied to INTVCC, the switching frequency (See Datasheet)", 13 RUN (in) "Regulator Enable Pin. Enables chip operation by applying a voltage above 1.25V. A voltage below 1.0V on this pin places the part into shutdown. Do not float this pin.", 14 SVIN (power) "Signal Power Supply Input. This pin supplies current to the internal 3.3V regulator.", 15 PVIN (power) "Main Power Supply Input. These pins should be closely decoupled to PGND with a low ESR capacitor of value 10uF or more.", 16 PVIN (power) "Main Power Supply Input. These pins should be closely decoupled to PGND with a low ESR capacitor of value 10uF or more.", 17 MODE/SYNC (in) "Mode Selection and External Synchronization Input. This pin places the LTC3626 into forced continuous operation when tied to ground. High efficiency Burst Mode operation is enabled by either floating this pin or tying this (See Datasheet)", 18 PGOOD (hiz) "Open-Drain Power Good Output Pin. PGOOD is pulled to ground when the voltage at the FB pin is not within +/-8% (typical) of the internal 0.6V reference. PGOOD becomes high impedance once the voltage at the FB pin returns to (See Datasheet)", 19 SW (power) "Switch Node Connection to Inductor. Connect this pin to the SW side of the external inductor. The normal operation voltage swing of this pin ranges from ground to PVIN.", 20 SW (power) "Switch Node Connection to Inductor. Connect this pin to the SW side of the external inductor. The normal operation voltage swing of this pin ranges from ground to PVIN.", 21 EP (power) "Power Ground Pin. The (-) terminal of the input bypass capacitor, CIN, and the (-) of the output capacitor, COUT, should be tied to this pin with a low impedance connection. This pin must be soldered to the PCB to provide (See Datasheet)"

## LTC3630AEDHC#PBF
designator U?
High Efficiency, 500 mA Step-Down Converter, 16-pin SON (DHC-16), -40 to 125 degC, Pb-Free; Manufacturer: Linear Technology; PartNumber: LTC3630AEDHC#PBF; Number of Outputs: 1; PackageReference: DHC-16; PackageDescription: 16-Pin Plastic DFN, Body 5 x 3 mm, Pitch 0.5 mm; Supplier 1: Digi-Key; Supplier Part Number 1: LTC3630AEDHC#PBF-ND; RoHS: TRUE; Code_JEDEC: MO-229
footprint LT-DHC-16_V (SON, 16-Leads, Body 5x3mm, Pitch 0.5mm, Thermal Pad 4.4X1.65mm)
part A pins: 1 SW (power) "Switch Node Connection to Inductor. This pin connects to the drains of the internal power MOSFET switches.", 3 VIN (power) "Main Input Supply Pin. A ceramic bypass capacitor should be tied between this pin and GND.", 5 RUN (in) "Run Control Input. A voltage on this pin above 1.21V enables normal operation. Forcing this pin below 0.7V shuts down the LTC3630, reducing quiescent current to approximately 5uA. Optionally, connect to the input supply (See Datasheet)", 6 VPRG2 (in) "Output Voltage Selection. Short both pins to ground for an external resistive divider programmable output voltage. Short VPRG1 to SS and short VPRG2 to ground for a 5V output voltage. Short VPRG1 to ground and short VPRG2 to (See Datasheet)", 7 VPRG1 (in) "Output Voltage Selection. Short both pins to ground for an external resistive divider programmable output voltage. Short VPRG1 to SS and short VPRG2 to ground for a 5V output voltage. Short VPRG1 to ground and short VPRG2 to (See Datasheet)", 8 GND (power) "Ground. The exposed backside pad must be soldered to the PCB ground plane for optimal thermal performance.", 9 VFB (in) "Output Voltage Feedback. When configured for an adjustable output voltage, connect to an external resistive divider to divide the output voltage down for comparison to the 0.8V reference. For the fixed output configuration, (See Datasheet)", 10 SS (in) "Soft-Start Control Input. A capacitor to ground at this pin sets the output voltage ramp time. A 50uA current initially charges the soft-start capacitor until switching begins, at which time the current is reduced to its (See Datasheet)", 11 ISET (in) "Peak Current Set Input and Voltage Output Ripple Filter. A resistor from this pin to ground sets the peak current comparator threshold. Leave floating for the maximum peak current (1.2A typical) or short to ground for (See Datasheet)", 12 FBO (out) "Feedback Comparator Output. Connect to the VFB pins of additional LTC3630s to combine the output current. The typical pull-up current is 20uA. The typical pull- down impedance is 70 ohm. See Applications Information.", 14 GND (power) "Ground. The exposed backside pad must be soldered to the PCB ground plane for optimal thermal performance.", 16 GND (power) "Ground. The exposed backside pad must be soldered to the PCB ground plane for optimal thermal performance.", 17 EP (power) "Ground. The exposed backside pad must be soldered to the PCB ground plane for optimal thermal performance."
part B pins: 2 NC "No Internal Connection. Leave these pins open.", 4 NC "No Internal Connection. Leave these pins open.", 13 NC "No Internal Connection. Leave these pins open.", 15 NC "No Internal Connection. Leave these pins open."

## LTC3630AEDHC#TRPBF
designator U?
High Efficiency, 500 mA Step-Down Converter, 16-pin SON (DHC-16), -40 to 125 degC, Pb-Free, Tape and Reel; Manufacturer: Linear Technology; PartNumber: LTC3630AEDHC#TRPBF; Number of Outputs: 1; PackageReference: DHC-16; PackageDescription: 16-Pin Plastic DFN, Body 5 x 3 mm, Pitch 0.5 mm; Supplier 1: Digi-Key; Supplier Part Number 1: LTC3630AEDHC#TRPBF-ND; RoHS: TRUE; Code_JEDEC: MO-229
footprint LT-DHC-16_V (SON, 16-Leads, Body 5x3mm, Pitch 0.5mm, Thermal Pad 4.4X1.65mm)
part A pins: 1 SW (power) "Switch Node Connection to Inductor. This pin connects to the drains of the internal power MOSFET switches.", 3 VIN (power) "Main Input Supply Pin. A ceramic bypass capacitor should be tied between this pin and GND.", 5 RUN (in) "Run Control Input. A voltage on this pin above 1.21V enables normal operation. Forcing this pin below 0.7V shuts down the LTC3630, reducing quiescent current to approximately 5uA. Optionally, connect to the input supply (See Datasheet)", 6 VPRG2 (in) "Output Voltage Selection. Short both pins to ground for an external resistive divider programmable output voltage. Short VPRG1 to SS and short VPRG2 to ground for a 5V output voltage. Short VPRG1 to ground and short VPRG2 to (See Datasheet)", 7 VPRG1 (in) "Output Voltage Selection. Short both pins to ground for an external resistive divider programmable output voltage. Short VPRG1 to SS and short VPRG2 to ground for a 5V output voltage. Short VPRG1 to ground and short VPRG2 to (See Datasheet)", 8 GND (power) "Ground. The exposed backside pad must be soldered to the PCB ground plane for optimal thermal performance.", 9 VFB (in) "Output Voltage Feedback. When configured for an adjustable output voltage, connect to an external resistive divider to divide the output voltage down for comparison to the 0.8V reference. For the fixed output configuration, (See Datasheet)", 10 SS (in) "Soft-Start Control Input. A capacitor to ground at this pin sets the output voltage ramp time. A 50uA current initially charges the soft-start capacitor until switching begins, at which time the current is reduced to its (See Datasheet)", 11 ISET (in) "Peak Current Set Input and Voltage Output Ripple Filter. A resistor from this pin to ground sets the peak current comparator threshold. Leave floating for the maximum peak current (1.2A typical) or short to ground for (See Datasheet)", 12 FBO (out) "Feedback Comparator Output. Connect to the VFB pins of additional LTC3630s to combine the output current. The typical pull-up current is 20uA. The typical pull- down impedance is 70 ohm. See Applications Information.", 14 GND (power) "Ground. The exposed backside pad must be soldered to the PCB ground plane for optimal thermal performance.", 16 GND (power) "Ground. The exposed backside pad must be soldered to the PCB ground plane for optimal thermal performance.", 17 EP (power) "Ground. The exposed backside pad must be soldered to the PCB ground plane for optimal thermal performance."
part B pins: 2 NC "No Internal Connection. Leave these pins open.", 4 NC "No Internal Connection. Leave these pins open.", 13 NC "No Internal Connection. Leave these pins open.", 15 NC "No Internal Connection. Leave these pins open."